# EAGLE library part QUADSWITCH(TE1825057-3) (library E14-P-099-R21.2)
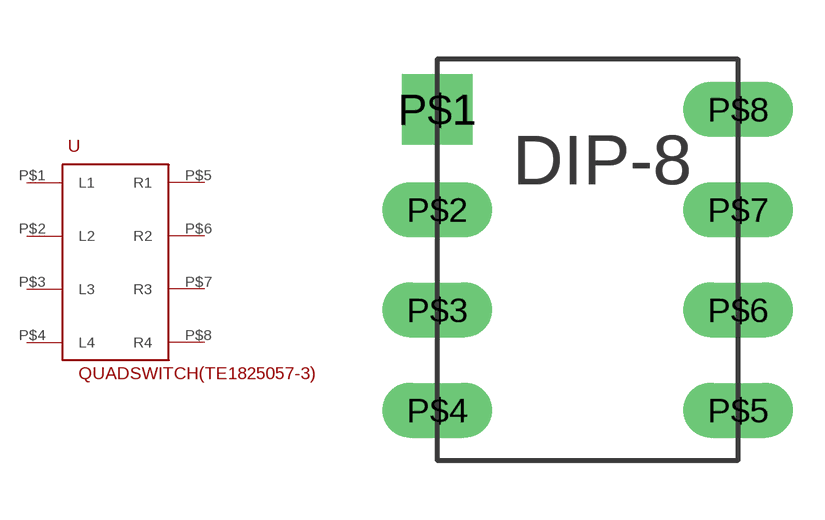
[diagram p2: symbol with the pads of DIP8; footprint DIP8]

Designator prefix U

## QUADSWITCH(TE1825057-3)  [DIP8]
P$1  L1
P$2  L2
P$3  L3
P$4  L4
P$5  R1
P$6  R2
P$7  R3
P$8  R4

## Footprint DIP8 (pad centres in mm)
drill 0.889 pad 1.778 square: P$1 -3.81,3.81
drill 0.889 long: P$2 -3.81,1.27; P$3 -3.81,-1.27; P$4 -3.81,-3.81; P$5 3.81,-3.81; P$6 3.81,-1.27; P$7 3.81,1.27; P$8 3.81,3.81